# Altium schematic symbol library D_Actives.SchLib: 7 symbols
Pins are listed as number, name and electrical type; pins without a type are passive.

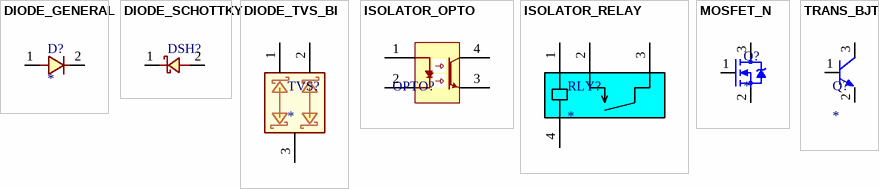
[diagram p0: symbols DIODE_GENERAL to TRANS_BJT]

## DIODE_GENERAL
designator D?
MANUFACTURER: *; MANUFACTURER CODE: *; PROVIDER: *; PROVIDER CODE: *; ComponentLink1Description: DATASHEET; ComponentLink1URL: *; ComponentLink2Description: PROVIDER LINK; ComponentLink2URL: *; VALUE: *
footprint SMA
pins: 1, 2

## DIODE_SCHOTTKY
designator DSH?  (value not drawn)
MANUFACTURER: *; MANUFACTURER CODE: *; PROVIDER: *; PROVIDER CODE: *
footprint SOD-323_B5817WS
pins: 1, 2

## DIODE_TVS_BI
designator TVS?
MANUFACTURER: *; MANUFACTURER CODE: *; PROVIDER: *; PROVIDER CODE: *; ComponentLink1Description: PROVIDER LINK; ComponentLink1URL: *; ComponentLink2Description: DATASHEET; ComponentLink2URL: *; VALUE: *
footprint SOT_23-CDSOT23-SM712
pins: 1, 2, 3

## ISOLATOR_OPTO
designator OPTO?  (value not drawn)
MANUFACTURER: *; MANUFACTURER CODE: *; PROVIDER: *; PROVIDER CODE: *; ComponentLink1Description: PROVIDER LINK; ComponentLink1URL: *; ComponentLink2Description: DATASHEET; ComponentLink2URL: *
footprint SMD_4P-PC817X2CSP9F
pins: 1 A-, 2 C+, 3 E, 4 C

## ISOLATOR_RELAY
designator RLY?
MANUFACTURER: *; MANUFACTURER CODE: *; PROVIDER: *; PROVIDER CODE: *; ComponentLink1Description: PROVIDER LINK; ComponentLink1URL: *; ComponentLink2Description: DATASHEET; ComponentLink2URL: *
footprint Plugin_G5NB-1A-E-24VDC (24V 5A One Normally Open: 1A (SPST-NO) Plugin,7x20.4mm Power Relays ROHS)
pins: 1, 2, 3, 4

## MOSFET_N
designator Q?
MANUFACTURER: *; MANUFACTURER CODE: *; PROVIDER: *; PROVIDER CODE: *; ComponentLink1Description: PROVIDER LINK; ComponentLink1URL: *; ComponentLink2Description: DATASHEET; ComponentLink2URL: *
footprint SOT-23_BSS138LT1G (50V 200mA 225mW 5.6Ω@2.75V 500mV 1 N-channel SOT-23 MOSFETs ROHS)
pins: 1 G, 2 S, 3 D

## TRANS_BJT
designator Q?
MANUFACTURER: *; MANUFACTURER CODE: *; PROVIDER: *; PROVIDER CODE: *; ComponentLink1Description: PROVIDER LINK; ComponentLink1URL: *; ComponentLink2Description: DATASHEET; ComponentLink2URL: *
footprint SOT-23-SS8050-G
pins: 1, 2, 3